# EAGLE library part LP_FILTER (library GW-devices)
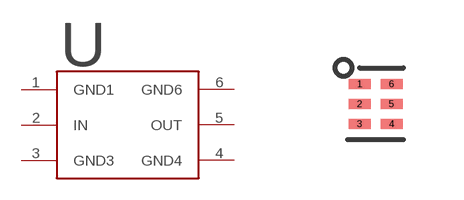
[diagram p28: symbol with the pads of 2450LP14B100; footprint 2450LP14B100]

Designator prefix -

## LP_FILTER-2450LP14B100  [2450LP14B100]
1  GND1
2  IN
3  GND3
4  GND4
5  OUT
6  GND6

## Footprint 2450LP14B100 (pad centres in mm)
smd 0.55 x 0.25: 1 -0.4,0.5; 2 -0.4,0; 3 -0.4,-0.5; 4 0.4,-0.5; 5 0.4,0; 6 0.4,0.5